# Altium footprint library CC1201EvalBoard.PcbLib: 15 footprints
Each footprint in its own frame and in the unit in brackets; x right, y up, seen from the top. Pads: shape width x height; smd on the part's side, far side on the other; paste and mask are expansions set on the pad; w line width, h text height; cw(c..) or ccw(c..) is an arc to the next point about the centre after c.
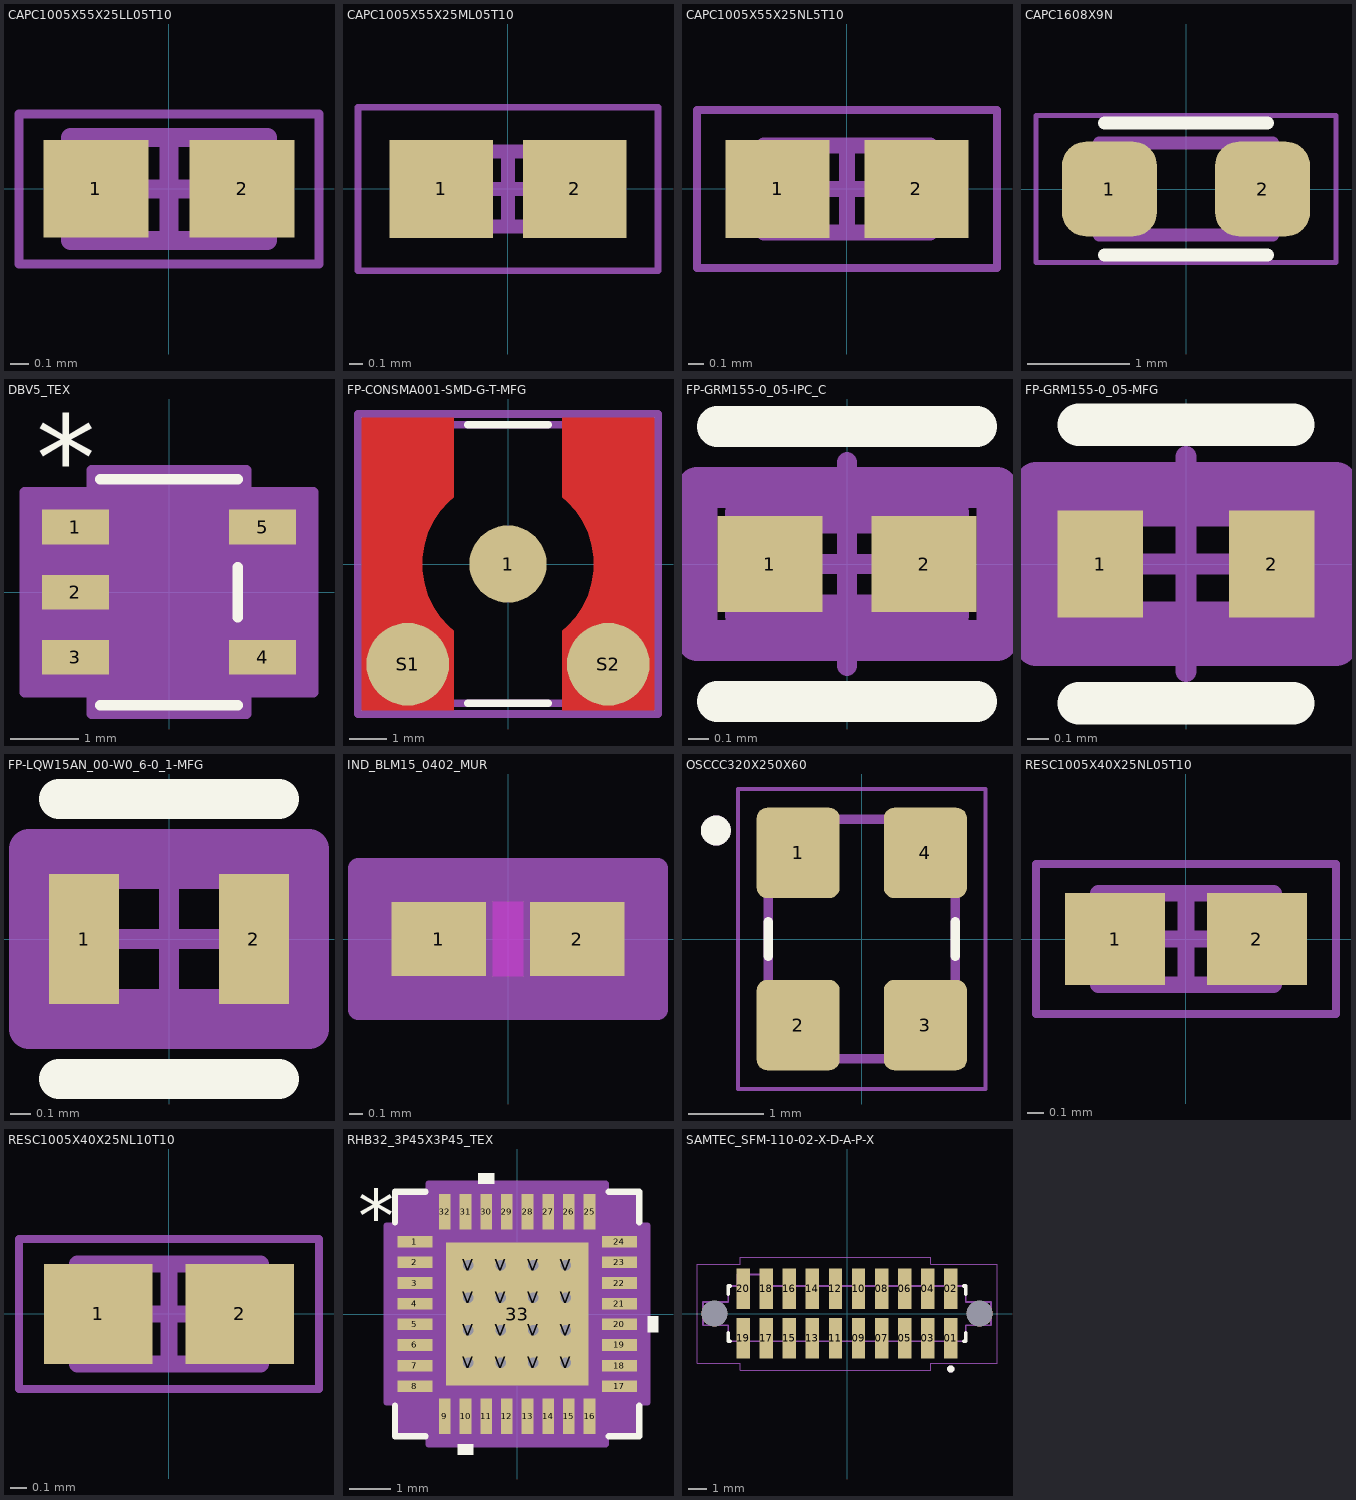
[diagram p0: the footprints below, top view; thin cyan lines are the x and y axes]

## CAPC1005X55X25LL05T10 [mm]
pads (2):
  rect 0.56x0.52 smd: 1(-0.39,0) 2(0.39,0)
Mechanical 13:
  lines w0.1: -0.525,-0.275 -0.525,0.275 0.525,0.275 0.525,-0.275 -0.525,-0.275
Mechanical 15:
  lines w0.05: -0.8,-0.4 -0.8,0.4 0.8,0.4 0.8,-0.4 -0.8,-0.4
  lines w0.1: -0.275,0 0.275,0 ; 0,-0.275 0,0.275
3D body: height 0.55, standoff 0, extent -0.275,-0.275 0.275,0.275
3D body: height 0.55, standoff 0, extent -0.525,-0.275 -0.275,0.275
3D body: height 0.55, standoff 0, extent 0.275,-0.275 0.525,0.275

## CAPC1005X55X25ML05T10 [mm]
pads (2):
  rect 0.76x0.72 smd: 1(-0.49,0) 2(0.49,0)
Mechanical 13:
  lines w0.1: -0.525,-0.275 -0.525,0.275 0.525,0.275 0.525,-0.275 -0.525,-0.275
Mechanical 15:
  lines w0.05: -1.1,-0.6 -1.1,0.6 1.1,0.6 1.1,-0.6 -1.1,-0.6
  lines w0.1: -0.275,0 0.275,0 ; 0,-0.275 0,0.275
3D body: height 0.55, standoff 0, extent -0.275,-0.275 0.275,0.275
3D body: height 0.55, standoff 0, extent -0.525,-0.275 -0.275,0.275
3D body: height 0.55, standoff 0, extent 0.275,-0.275 0.525,0.275

## CAPC1005X55X25NL5T10 [mm]
pads (2):
  rect 0.66x0.62 smd: 1(-0.44,0) 2(0.44,0)
Mechanical 13:
  lines w0.1: -0.525,-0.275 -0.525,0.275 0.525,0.275 0.525,-0.275 -0.525,-0.275
Mechanical 15:
  lines w0.05: -0.95,-0.5 -0.95,0.5 0.95,0.5 0.95,-0.5 -0.95,-0.5
  lines w0.1: -0.275,0 0.275,0 ; 0,-0.275 0,0.275
3D body "CAPC1005X06N.step": height 0.55, standoff 0, extent -0.525,-0.275 0.525,0.275

## CAPC1608X9N [mm]
pads (2):
  rrect50% 0.93x0.93 smd: 1(-0.75,0) 2(0.75,0)
Top Overlay:
  lines w0.127: -0.8,-0.645 0.8,-0.645 ; -0.8,0.645 0.8,0.645
Mechanical 13:
  lines w0.127: -0.85,-0.45 -0.85,0.45 0.85,0.45 0.85,-0.45 -0.85,-0.45
Mechanical 15:
  lines w0.05: -1.47,-0.72 1.47,-0.72 1.47,0.72 -1.47,0.72 -1.47,-0.72

## DBV5_TEX [mil]
pads (5):
  rect 38.5x20 smd paste+0 mask+0: 1(-53.75,37.4) 2(-53.75,0) 3(-53.75,-37.4) 4(53.75,-37.4) 5(53.75,37.4)
Top Overlay:
  lines w6: -39.5,-65 39.5,-65 ; -39.5,65 39.5,65 ; 39.5,-14.3 39.5,14.3
  text "*" at -76.25,52.4 h50
Mechanical 13:
  lines w0: -12,60 ccw(c0,60) 12,60
  lines w1: -59,-47.4 -59,-27.4 -34.5,-27.4 -34.5,-47.4 -59,-47.4 ; -59,-10 -59,10 -34.5,10 -34.5,-10 -59,-10 ; -59,27.4 -59,47.4 -34.5,47.4 -34.5,27.4 -59,27.4 ; -34.5,-60 34.5,-60 34.5,60 -34.5,60 -34.5,-60 ; 34.5,-47.4 34.5,-27.4 59,-27.4 59,-47.4 34.5,-47.4 ; 34.5,27.4 34.5,47.4 59,47.4 59,27.4 34.5,27.4
  text "*" at -37,14.4 h50
Mechanical 15:
  region: 44.5,-70 -44.5,-70 -44.5,-57.4 -83,-57.4 -83,57.4 -44.5,57.4 -44.5,70 44.5,70 44.5,57.4 83,57.4 83,-57.4 44.5,-57.4
  lines w6: -83,-57.4 -44.5,-57.4 -44.5,-70 44.5,-70 44.5,-57.4 83,-57.4 83,57.4 44.5,57.4 44.5,70 -44.5,70 -44.5,57.4 -83,57.4 -83,-57.4
3D body "DBV5_TEX.step": height 57.09, standoff 0, extent -59.02,-60 59.02,60

## FP-CONSMA001-SMD-G-T-MFG [mm]
pads (3):
  round 2.05 smd paste+0 mask+0: 1(0,0)
  round 2.196 smd paste+0 mask+0: S1(-2.66,-2.66) S2(2.66,-2.66)
Top Layer:
  region: -3.88,3.88 -1.44,3.88 -1.44,1.768 -1.567,1.657 -1.794,1.408 -1.981,1.128 -2.126,0.824 -2.224,0.502 -2.274,0.168 -2.274,-0.168 -2.224,-0.502 -2.126,-0.824 -1.981,-1.128 -1.794,-1.408 -1.567,-1.657 -1.44,-1.768 -1.44,-3.88 -3.88,-3.88
  region: 3.88,3.88 1.44,3.88 1.44,1.768 1.567,1.657 1.794,1.408 1.981,1.128 2.126,0.824 2.224,0.502 2.274,0.168 2.274,-0.168 2.224,-0.502 2.126,-0.824 1.981,-1.128 1.794,-1.408 1.567,-1.656 1.44,-1.768 1.44,-3.88 3.88,-3.88
Top Overlay:
  lines w0.2: -1.065,-3.7 1.065,-3.7 ; -1.065,3.7 1.065,3.7
Bottom Courtyard:
  lines w0.2: -3.98,-3.98 3.98,-3.98 3.98,3.98 -3.98,3.98 -3.98,-3.98
  text ".Designator" at 0.127,0.46 h1
Mechanical 13:
  lines w0.2: -3.7,-3.7 3.7,-3.7 3.7,3.7 -3.7,3.7 -3.7,-3.7
Mechanical 15:
  lines w0.2: -3.98,-3.98 3.98,-3.98 3.98,3.98 -3.98,3.98 -3.98,-3.98
Mechanical 16:
  lines w0.1: -0.5,0 0.5,0 ; 0,-0.5 0,0.5
3D body "Conn_Linx_Technologies_CONSMA001-SMD-G-T_eec.STEP": height 0.25, standoff 0, extent -3.98,-3.98 3.98,3.98

## FP-GRM155-0_05-IPC_C [mm]
pads (2):
  rect 0.515x0.472 smd paste+0 mask+0: 1(-0.379,0)
  rect 0.515x0.472 smd paste+0: 2(0.379,0)
Top Overlay:
  lines w0.2: -0.636,-0.675 0.636,-0.675 ; -0.636,0.675 0.636,0.675
Bottom Courtyard:
  lines w0.2: -0.736,-0.375 -0.736,0.375 0.736,0.375 0.736,-0.375 -0.736,-0.375
  text ".Designator" at 0.127,0.46 h1
Mechanical 13:
  lines w0.2: -0.5,-0.25 -0.5,0.25 0.5,0.25 0.5,-0.25 -0.5,-0.25
Mechanical 15:
  lines w0.2: -0.736,-0.375 -0.736,0.375 0.736,0.375 0.736,-0.375 -0.736,-0.375
Mechanical 16:
  lines w0.1: -0.5,0 0.5,0 ; 0,-0.5 0,0.5
3D body "Cap_Murata_GRM1552C1H271GA01J_eec.STEP": height 0.25, standoff 0, extent -0.736,-0.375 0.736,0.375

## FP-GRM155-0_05-MFG [mm]
pads (2):
  rect 0.4x0.5 smd paste+0 mask+0: 1(-0.4,0) 2(0.4,0)
Top Overlay:
  lines w0.2: -0.5,-0.65 0.5,-0.65 ; -0.5,0.65 0.5,0.65
Bottom Courtyard:
  lines w0.2: -0.7,-0.375 -0.7,0.375 0.7,0.375 0.7,-0.375 -0.7,-0.375
  text ".Designator" at 0.127,0.46 h1
Mechanical 13:
  lines w0.2: -0.525,-0.275 -0.525,0.275 0.525,0.275 0.525,-0.275 -0.525,-0.275
Mechanical 15:
  lines w0.2: -0.7,-0.375 -0.7,0.375 0.7,0.375 0.7,-0.375 -0.7,-0.375
Mechanical 16:
  lines w0.1: -0.5,0 0.5,0 ; 0,-0.5 0,0.5
3D body "Cap_Murata_GRM1552C1H271GA01J_eec.STEP": height 0.25, standoff 0, extent -0.7,-0.375 0.7,0.375

## FP-LQW15AN_00-W0_6-0_1-MFG [mm]
pads (2):
  rect 0.35x0.65 smd paste+0 mask+0: 1(-0.425,0) 2(0.425,0)
Top Overlay:
  lines w0.2: -0.55,-0.7 0.55,-0.7 ; -0.55,0.7 0.55,0.7
Bottom Courtyard:
  lines w0.2: -0.7,-0.45 -0.7,0.45 0.7,0.45 0.7,-0.45 -0.7,-0.45
  text ".Designator" at 0.127,0.46 h1
Mechanical 13:
  lines w0.2: -0.55,-0.35 -0.55,0.35 0.55,0.35 0.55,-0.35 -0.55,-0.35
Mechanical 15:
  lines w0.2: -0.7,-0.45 -0.7,0.45 0.7,0.45 0.7,-0.45 -0.7,-0.45
Mechanical 16:
  lines w0.1: -0.5,0 0.5,0 ; 0,-0.5 0,0.5
3D body "Ind_Murata_LQW15AN10NG00B_eec.STEP": height 0.25, standoff 0, extent -0.7,-0.45 0.7,0.45

## IND_BLM15_0402_MUR [mil]
pads (2):
  rect 28x22 smd paste+0 mask+0: 1(-20.5,0) 2(20.5,0)
Top Layer keep-out:
  region: -4.5,-9 -4.5,9 4.5,9 4.5,-9
Keep-Out Layer:
  region: -4.5,-11 -4.5,11 4.5,11 4.5,-11
Mechanical 13:
  lines w1: -20.5,-11 -20.5,11 ; -20.5,-11 20.5,-11 ; -20.5,-11 -6.5,-11 -6.5,11 -20.5,11 ; -20.5,-11 -20.5,11 ; -20.5,11 20.5,11 ; 20.5,-11 20.5,11 ; 20.5,-11 20.5,11 ; 20.5,-11 6.5,-11 6.5,11 20.5,11
Mechanical 15:
  region: 44.5,-21 -44.5,-21 -44.5,21 44.5,21
  lines w6: -44.5,-21 44.5,-21 44.5,21 -44.5,21 -44.5,-21
3D body "IND_BLM15_0402_MUR.step": height 22.01, standoff 0, extent -20.51,-10.98 20.51,10.98

## OSCCC320X250X60 [mm]
pads (4):
  rrect25% 1.11x1.21 smd: 1(-0.85,1.15) 2(-0.85,-1.15) 3(0.85,-1.15) 4(0.85,1.15)
Top Overlay:
  circle w0.2: c-1.95,1.45 r0.1
  lines w0.127: -1.25,-0.232 -1.25,0.232 ; 1.25,-0.232 1.25,0.232
Mechanical 13:
  circle w0.2: c-1.95,1.45 r0.1
  lines w0.127: -1.25,-1.6 -1.25,1.6 1.25,1.6 1.25,-1.6 -1.25,-1.6
Mechanical 15:
  lines w0.05: -1.655,-2.005 -1.655,2.005 1.655,2.005 1.655,-2.005 -1.655,-2.005

## RESC1005X40X25NL05T10 [mm]
pads (2):
  rect 0.6x0.55 smd: 1(-0.425,0) 2(0.425,0)
Mechanical 13:
  lines w0.1: -0.525,-0.275 -0.525,0.275 0.525,0.275 0.525,-0.275 -0.525,-0.275
Mechanical 15:
  lines w0.05: -0.9,-0.45 -0.9,0.45 0.9,0.45 0.9,-0.45 -0.9,-0.45
  lines w0.1: -0.275,0 0.275,0 ; 0,-0.275 0,0.275
3D body: height 0.4, standoff 0, extent -0.275,-0.275 0.275,0.275
3D body: height 0.4, standoff 0, extent -0.525,-0.275 -0.275,0.275
3D body: height 0.4, standoff 0, extent 0.275,-0.275 0.525,0.275

## RESC1005X40X25NL10T10 [mm]
pads (2):
  rect 0.65x0.6 smd: 1(-0.425,0) 2(0.425,0)
Mechanical 13:
  lines w0.1: -0.55,-0.3 0.55,-0.3 0.55,0.3 -0.55,0.3 -0.55,-0.3
Mechanical 15:
  lines w0.05: -0.9,-0.45 0.9,-0.45 0.9,0.45 -0.9,0.45 -0.9,-0.45
  lines w0.1: -0.3,0 0.3,0 ; 0,-0.3 0,0.3
3D body: height 0.4, standoff 0, extent 0.3,-0.3 0.55,0.3
3D body: height 0.4, standoff 0, extent -0.55,-0.3 -0.3,0.3
3D body: height 0.4, standoff 0, extent -0.3,-0.3 0.3,0.3

## RHB32_3P45X3P45_TEX [mil]
pads (49):
  rect 33.46x11.02 smd paste-16.23 mask+0: 1(-97.44,68.9) 2(-97.44,49.21) 3(-97.44,29.53) 4(-97.44,9.84) 5(-97.44,-9.84) 6(-97.44,-29.53) 7(-97.44,-49.21) 8(-97.44,-68.9) 17(97.44,-68.9) 18(97.44,-49.21) 19(97.44,-29.53) 20(97.44,-9.84) 21(97.44,9.84) 22(97.44,29.53) 23(97.44,49.21) 24(97.44,68.9)
  rect 11.02x33.46 smd paste-16.23 mask+0: 9(-68.92,-97.44) 10(-49.23,-97.44) 11(-29.54,-97.44) 12(-9.85,-97.44) 13(9.85,-97.44) 14(29.54,-97.44) 15(49.23,-97.44) 16(68.92,-97.44) 25(68.92,97.44) 26(49.23,97.44) 27(29.54,97.44) 28(9.85,97.44) 29(-9.85,97.44) 30(-29.54,97.44) 31(-49.23,97.44) 32(-68.92,97.44)
  rect 135.83x135.83 smd paste-67.41 mask-67.5: 33(0,0)
  round 20 hole 10 paste-99999 mask-10: V(-46.5,-46.5) V(-46.5,-15.5) V(-46.5,15.5) V(-46.5,46.5) V(-15.5,-46.5) V(-15.5,-15.5) V(-15.5,15.5) V(-15.5,46.5) V(15.5,-46.5) V(15.5,-15.5) V(15.5,46.5) V(46.5,-46.5) V(46.5,-15.5) V(46.5,15.5) V(46.5,46.5)
  round 20 / inner round 60 / far side round 20 hole 10 paste-99999 mask-10: V(15.5,15.5)
Top Overlay:
  region: -22.04,124.17 -37.03,124.17 -37.03,134.17 -22.04,134.17
  region: 124.17,-2.34 134.17,-2.34 134.17,-17.34 124.17,-17.34
  region: -41.73,-124.17 -56.73,-124.17 -56.73,-134.17 -41.73,-134.17
  lines w6: -116.38,-87.32 -116.38,-116.38 -87.34,-116.38 ; -116.38,87.32 -116.38,116.38 -87.34,116.38 ; 87.34,-116.38 116.38,-116.38 116.38,-87.32 ; 87.34,116.38 116.38,116.38 116.38,87.32
  text "*" at -151.67,68.74 h50
Top Paste:
  drawing of 25 lines, arcs and shapes, not listed
Top Solder:
  region: 54.37,-70.41 54.37,70.41 70.41,70.41 70.41,-70.41
  region: 38.63,-70.41 38.63,70.41 23.37,70.41 23.37,-70.41
  region: 7.63,-70.41 7.63,70.41 -7.63,70.41 -7.63,-70.41
  region: -23.37,-70.41 -23.37,70.41 -38.63,70.41 -38.63,-70.41
  region: -70.41,-70.41 -70.41,70.41 -54.37,70.41 -54.37,-70.41
  region: -70.41,-70.41 -70.41,-54.37 70.41,-54.37 70.41,-70.41
  region: -70.41,-38.63 -70.41,-23.37 70.41,-23.37 70.41,-38.63
  region: -70.41,-7.63 -70.41,7.63 70.41,7.63 70.41,-7.63
  region: -70.41,23.37 -70.41,38.63 70.41,38.63 70.41,23.37
  region: -70.41,54.37 -70.41,70.41 70.41,70.41 70.41,54.37
Mechanical 13:
  lines w1: -101.38,51.38 -51.38,101.38 ; -101.38,-101.38 -101.38,101.38 101.38,101.38 101.38,-101.38 -101.38,-101.38
  text "*" at -83.21,53.74 h50
Mechanical 15:
  region: -84.43,-111.38 -111.38,-111.38 -111.38,-84.41 -124.17,-84.41 -124.17,84.41 -111.38,84.41 -111.38,111.38 -84.43,111.38 -84.43,124.17 84.43,124.17 84.43,111.38 111.38,111.38 111.38,84.41 124.17,84.41 124.17,-84.41 111.38,-84.41 111.38,-111.38 84.43,-111.38 84.43,-124.17 -84.43,-124.17
  lines w6: -124.17,-84.41 -124.17,84.41 -111.38,84.41 -111.38,111.38 -84.43,111.38 -84.43,124.17 84.43,124.17 84.43,111.38 111.38,111.38 111.38,84.41 124.17,84.41 124.17,-84.41 111.38,-84.41 111.38,-111.38 84.43,-111.38 84.43,-124.17 -84.43,-124.17 -84.43,-111.38 -111.38,-111.38 -111.38,-84.41 -124.17,-84.41
3D body "RHB32_3P45X3P45_TEX.step": height 55.12, standoff 0, extent -103.39,-103.39 103.39,103.39

## SAMTEC_SFM-110-02-X-D-A-P-X [mil]
pads (22):
  rect 29x87.5 smd: 01(225,-53.75) 02(225,53.75) 03(175,-53.75) 04(175,53.75) 05(125,-53.75) 06(125,53.75) 07(75,-53.75) 08(75,53.75) 09(25,-53.75) 10(25,53.75) 11(-25,-53.75) 12(-25,53.75) 13(-75,-53.75) 14(-75,53.75) 15(-125,-53.75) 16(-125,53.75) 17(-175,-53.75) 18(-175,53.75) 19(-225,-53.75) 20(-225,53.75)
  round 56 hole 56 unplated: ""(-287.5,0) ""(287.5,0)
Top Overlay:
  circle w7.87: c225,-120 r3.94
  lines w7.87: -257.5,-41.78 -257.5,-60 -253.28,-60 ; -257.5,41.78 -257.5,60 -253.28,60 ; 253.28,-60 257.5,-60 257.5,-41.78 ; 253.28,60 257.5,60 257.5,41.78
Mechanical 21:
  lines w1.97: -325.34,-107.34 -231.84,-107.34 -231.84,-122.34 181.84,-122.34 181.84,-107.34 325.34,-107.34 325.34,107.34 181.84,107.34 181.84,122.34 -231.84,122.34 -231.84,107.34 -325.34,107.34 -325.34,-107.34
Mechanical 23:
  circle w7.87: c225,-120 r3.94
  lines w3.94: -312.5,-25 -257.5,-25 -257.5,-60 257.5,-60 257.5,-25 312.5,-25 312.5,25 257.5,25 257.5,60 -177.5,60 -177.5,85 -237.5,85 -237.5,60 -257.5,60 -257.5,25 -312.5,25 -312.5,-25